# EAGLE library part DS18030-050+ (library DS18030-050_)
Check availability <https://pricing.snapeda.com/parts/DS18030-050%2B/Maxim%20Integrated%20Products/view-part?ref=eda>
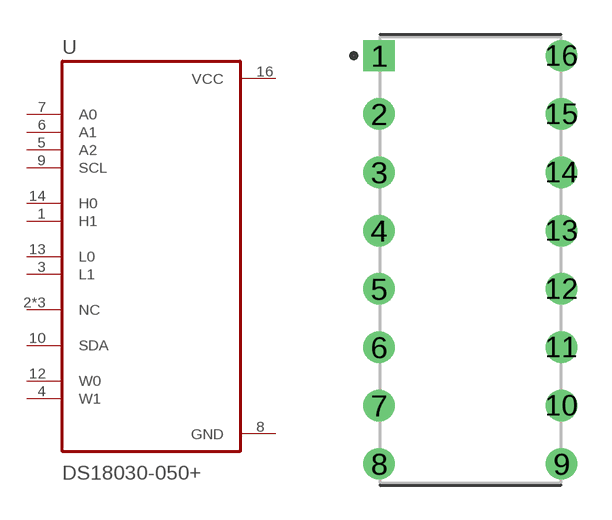
[diagram p0: symbol with the pads of DIP794W47P254L1943H457Q16; footprint DIP794W47P254L1943H457Q16]

Designator prefix U

## DS18030-050+ (Availability: In Stock; Check_prices: https://www.snapeda.com/parts/DS18030-050+/Maxim+Integrated/view-part/?ref=eda; Description: Digital Potentiometer 50kOhm 256POS Volatile Linear 16-Pin PDIP N Tube; MF: Maxim Integrated Products; MP: DS18030-050+; Package: None; Price: None; SnapEDA_Link: https://www.snapeda.com/parts/DS18030-050+/Maxim+Integrated/view-part/?ref=snap)  [DIP794W47P254L1943H457Q16]
1  H1
2  NC
3  L1
4  W1
5  A2  in
6  A1  in
7  A0  in
8  GND  pwr
9  SCL  in
10  SDA
11  NC
12  W0
13  L0
14  H0
15  NC
16  VCC  pwr

## Footprint DIP794W47P254L1943H457Q16 (pad centres in mm)
drill 0.86 pad 1.21 square: 1 -3.97,8.89
drill 0.86 pad 1.21: 2 -3.97,6.35; 3 -3.97,3.81; 4 -3.97,1.27; 5 -3.97,-1.27; 6 -3.97,-3.81; 7 -3.97,-6.35; 8 -3.97,-8.89; 9 3.97,-8.89; 10 3.97,-6.35; 11 3.97,-3.81; 12 3.97,-1.27; 13 3.97,1.27; 14 3.97,3.81; 15 3.97,6.35; 16 3.97,8.89